# Altium schematic symbol library BQ25616RTWT.SchLib: 1 symbol
Pins are listed as number, name and electrical type; pins without a type are passive.

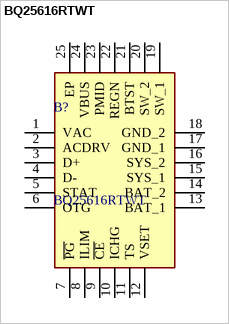
[diagram p0: symbol BQ25616RTWT]

## BQ25616RTWT
designator B?
Battery Management Standalone 1-cell 3.0-A buck battery charger with power path and 1.2-A boost operation 24-WQFN -40 to 85; Manufacturer_Name: Texas Instruments; Geometry.Height: 0.8mm; Mouser Part Number: 595-BQ25616RTWT; Mouser Price/Stock: https://www.mouser.co.uk/ProductDetail/Texas-Instruments/BQ25616RTWT?qs=GBLSl2AkirsF1eaqdbkEeA%3D%3D; Manufacturer_Part_Number: BQ25616RTWT; Datasheet Link: https://www.ti.com/lit/gpn/BQ25616
footprint QFN50P400X400X80-25N-D
pins: 1 VAC, 2 ACDRV, 3 D+, 4 D-, 5 STAT, 6 OTG, 7 ~{PG}, 8 ILIM, 9 ~{CE}, 10 ICHG, 11 TS, 12 VSET, 13 BAT_1, 14 BAT_2, 15 SYS_1, 16 SYS_2, 17 GND_1, 18 GND_2, 19 SW_1, 20 SW_2, 21 BTST, 22 REGN, 23 PMID, 24 VBUS, 25 EP